# Altium footprint library CON20_SMT_FPC_MOLEX_52746-2071.PcbLib: 1 footprints
Each footprint in its own frame and in the unit in brackets; x right, y up, seen from the top. Pads: shape width x height; smd on the part's side, far side on the other; paste and mask are expansions set on the pad; w line width, h text height; cw(c..) or ccw(c..) is an arc to the next point about the centre after c.
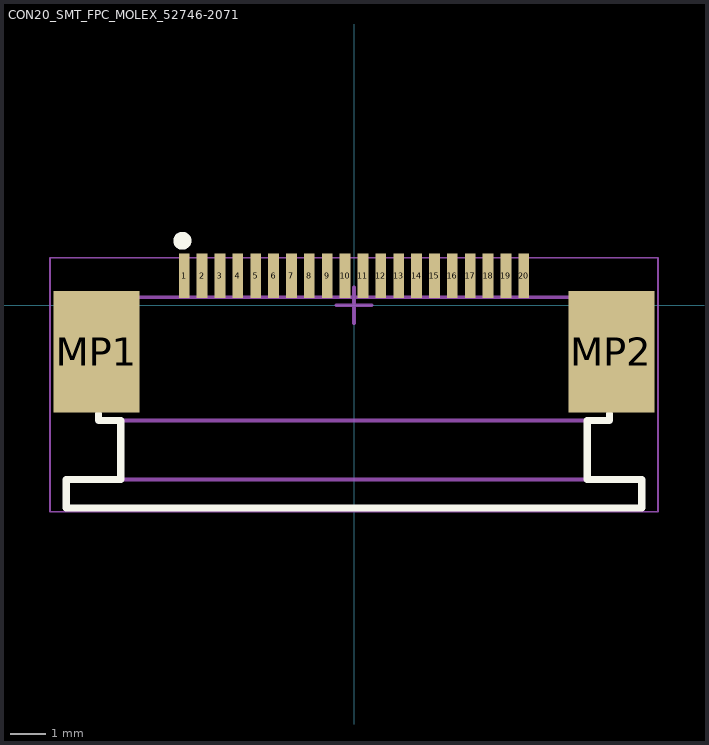
[diagram p0: the footprint, top view; thin cyan lines are the x and y axes]

## CON20_SMT_FPC_MOLEX_52746-2071 [mm]
pads (22):
  rect 0.3x1.25 smd: 1(-4.75,0.824) 2(-4.25,0.824) 3(-3.75,0.824) 4(-3.25,0.824) 5(-2.75,0.824) 6(-2.25,0.824) 7(-1.75,0.824) 8(-1.25,0.824) 9(-0.75,0.824) 10(-0.25,0.824) 11(0.25,0.824) 12(0.75,0.824) 13(1.25,0.824) 14(1.75,0.824) 15(2.25,0.824) 16(2.75,0.824) 17(3.25,0.824) 18(3.75,0.824) 19(4.25,0.824) 20(4.75,0.824)
  rect 2.4x3.4 smd: MP1(-7.2,-1.3) MP2(7.2,-1.3)
Top Overlay:
  circle w0.25: c-4.8,1.8 r0.125
  lines w0.2: -7.15,-3.026 -7.15,-3.226 -6.525,-3.226 ; -6.525,-3.239 -6.525,-4.876 -8.05,-4.877 -8.05,-5.676 8.05,-5.676 8.05,-4.876 6.525,-4.876 6.525,-3.226 7.15,-3.226 7.15,-3.026
Mechanical 13:
  lines w0.1: -8.05,-4.876 -6.4,-4.876 6.4,-4.876 8.05,-4.876 8.05,-5.677 -8.05,-5.677 -8.05,-4.877 ; -6.525,-4.876 -6.525,-3.226 ; 6.525,-4.876 6.525,-3.226 ; -7.15,-3.226 -6.4,-3.226 6.4,-3.226 7.15,-3.226 7.15,0.224 -7.15,0.224 -7.15,-3.226
Mechanical 15:
  lines w0.05: -8.5,-5.777 -8.5,1.324 8.5,1.324 8.5,-5.777 -8.5,-5.777
  lines w0.1: -0.5,0 0.5,0 ; 0,-0.5 0,0.5
3D body: height 2.01, standoff 0.01, extent -8.05,-5.676 8.05,0.924